# Altium schematic symbol library E49400T20S.SchLib: 1 symbol
Pins are listed as number, name and electrical type; pins without a type are passive.

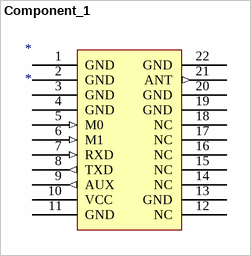
[diagram p0: symbol Component_1]

## Component_1
designator *
footprint PCBComponent_1
pins: 1 GND, 2 GND, 3 GND, 4 GND, 5 M0 (in), 6 M1 (in), 7 RXD (in), 8 TXD (out), 9 AUX (out), 10 VCC (power), 11 GND, 12 NC (oc), 13 GND, 14 NC (oc), 15 NC (oc), 16 NC (oc), 17 NC (oc), 18 NC (oc), 19 GND, 20 GND, 21 ANT (out), 22 GND